# EAGLE library part 74LVC1T45 (library SteveMarple)
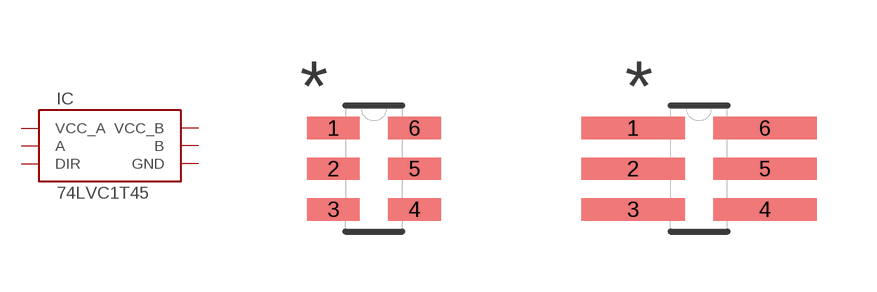
[diagram p34: symbol with the pads of SOT23-6; footprints SOT23-6, SOT23-6-HAND]

Designator prefix IC

## 74LVC1T45SOT23  [SOT23-6]
1  VCC_A  pwr
2  GND  pwr
3  A
4  B
5  DIR  in
6  VCC_B  pwr

## 74LVC1T45SOT23-HAND  [SOT23-6-HAND]
Pads as for SOT23-6

## Footprint SOT23-6 (pad centres in mm)
smd 1.321 x 0.559: 1 -1.016,1.016; 2 -1.016,0; 3 -1.016,-1.016; 4 1.016,-1.016; 5 1.016,0; 6 1.016,1.016

## Footprint SOT23-6-HAND (pad centres in mm)
SOT23-6 HAND SOT23-6 package with footprint designed for easier soldering by hand.
smd 2.591 x 0.559: 1 -1.651,1.016; 2 -1.651,0; 3 -1.651,-1.016; 4 1.651,-1.016; 5 1.651,0; 6 1.651,1.016